# EAGLE library part MAX4239AUT (library maxim-custom)
Precision Amplifiers Low Offset/Drift Precision
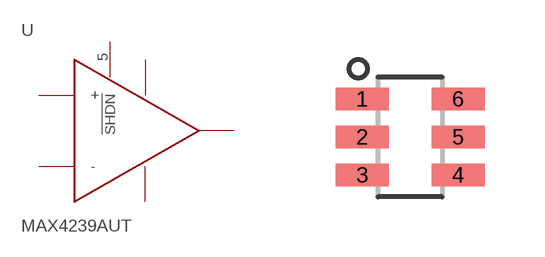
[diagram p1: symbol with the pads of SOT23-6L; footprint SOT23-6L]

Designator prefix U

## MAX4239AUT  [SOT23-6L]
1  OUT  pas
2  GND  pwr
3  +  pas
4  -  pas
5  !SHDN
6  VCC  pwr

## Footprint SOT23-6L (pad centres in mm)
smd 1.33 x 0.56: 1 -1.2,0.95; 2 -1.2,0; 3 -1.2,-0.95; 4 1.2,-0.95; 5 1.2,0; 6 1.2,0.95